# Altium schematic symbol library SiLPA.SchLib: 5 symbols
Pins are listed as number, name and electrical type; pins without a type are passive.

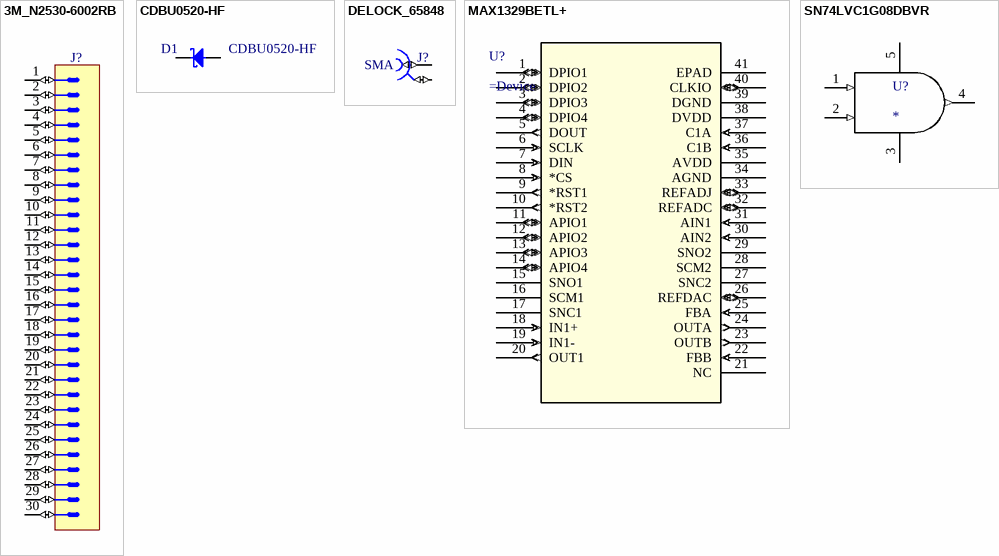
[diagram p0: symbols 3M_N2530-6002RB to SN74LVC1G08DBVR]

## 3M_N2530-6002RB
designator J?, comment Header 30  (value not drawn)
Connector 30 Male; Part Number: 3M_N2530-6002RB; Part Description: 30 Contacts - Straight .100'' x .100'' Low Profile Four-Wall Header, 2500 Series; Manufacturer: 3M; Manufacturer Part Number: N2530-6002RB; PressFit: No; Component Kind: Standard; Component Type: Standard; Footprint: 3M_N2530-6002RB; Pin Count: 30; Family: Header 30; Mounted: Yes; Socket: No; SMD: No; Sense: No; Status: None; ComponentHeight: 10.03mm; HelpURL: \\cern.ch\dfs\Applications\Altium\Datasheets\3M_N2530-6002RB.pdf; Author: CERN DEM JLC; CreateDate: 11.02.2009; LatestRevisionDate: 11.08.2009
footprint 3M_N2530-6002RB
pins: 1 (io), 2 (io), 3 (io), 4 (io), 5 (io), 6 (io), 7 (io), 8 (io), 9 (io), 10 (io), 11 (io), 12 (io), 13 (io), 14 (io), 15 (io), 16 (io), 17 (io), 18 (io), 19 (io), 20 (io), 21 (io), 22 (io), 23 (io), 24 (io), 25 (io), 26 (io), 27 (io), 28 (io), 29 (io), 30 (io)
1 alternate drawing of the same symbol

## CDBU0520-HF
designator D1
Schottky Diode; Part Description: 20V Surface mount Schottky Barrier Diode; Manufacturer: COMCHIP; Voltage: 20V; Power: 500mA; PressFit: No; Bonding: No; Part Number: CDBU0520-HF; Component Kind: Standard; Component Type: Standard; Device: CDBU0520-HF; Footprint: SOD-523F; PackageDescription: Small Outline Diode Flat Lead (SOD-523F), Body; 1.80mm L X 1mm W X 0.85mm H; Manufacturer Part Number: CDBU0520-HF; Pin Count: 2; Case: SOD-523F; Mounted: Yes; Socket: No; SMD: Yes; Sense: No; ComponentHeight: 1mm; HelpURL: \\cern.ch\dfs\Applications\Altium\Datasheets\CDBU0520-HF.pdf; Author: CERN DEM HF; CreateDate: 13.10.2023; LatestRevisionDate: 13.10.2023
footprint CDBU
pins: 1 C, 2 A

## DELOCK_65848
designator J?, comment SMA
50 Ohm Through Hole SMA Right Angle PCB Jack; Part Number: DELOCK_65848; Manufacturer: DELOCK; Manufacturer Part Number: 5848 (4043619658480); PressFit: No; Component Kind: Standard; Component Type: Standard; Footprint: DELOCK_65848; Pin Count: 5; Family: SMA; Mounted: Yes; Socket: No; SMD: No; Sense: No; Status: None; Part Description: 50 Ohm Through Hole SMA Right Angle PCB Jack; ComponentHeight: 12.5; HelpURL: \\cern.ch\dfs\Applications\Altium\Datasheets\AMPHENOL_132203-16.pdf; Author: GK; CreateDate: 13.05.2019; LatestRevisionDate: 13.05.2019
footprint DELOCK_65848
pins: 1 (io), 2 (io)

## MAX1329BETL+
designator U?
Data Acquisition ADCs/DACs - Specialised 12-/16-Bit DAS with ADC, DACs, DPIOs, AP; Mfr_Name: Maxim Integrated Products; Manufacturer_Part_Number: MAX1329BETL+; Copyright: Copyright (C) 2022 Ultra Librarian. All rights reserved.; RefDes: RefDes; Type: DEV
footprint 21-0141_T4066+5_MXM-M
pins: 1 DPIO1 (io), 2 DPIO2 (io), 3 DPIO3 (io), 4 DPIO4 (io), 5 DOUT (out), 6 SCLK (in), 7 DIN (in), 8 *CS (in), 9 *RST1 (out), 10 *RST2 (out), 11 APIO1 (io), 12 APIO2 (io), 13 APIO3 (io), 14 APIO4 (io), 15 SNO1, 16 SCM1, 17 SNC1, 18 IN1+ (in), 19 IN1- (in), 20 OUT1 (out), 21 NC, 22 FBB (in), 23 OUTB (out), 24 OUTA (out), 25 FBA (in), 26 REFDAC (io), 27 SNC2, 28 SCM2, 29 SNO2, 30 AIN2 (in), 31 AIN1 (in), 32 REFADC (io), 33 REFADJ (io), 34 AGND (power), 35 AVDD (power), 36 C1B (in), 37 C1A (in), 38 DVDD (power), 39 DGND (power), 40 CLKIO (io), 41 EPAD

## SN74LVC1G08DBVR
designator U?
Logic Gates Single 2 Input A 595-SN74LVC1G08DBVT; Mfr_Name: Texas Instruments; PartNumber: SN74LVC1G08DBVR; CompType: IC; TYPE: TYPE; RefDes: RefDes; Application_BuildNumber: *; Alternate_PartNumber: SN74LVC1G08DBVT; PackageReference: DBV0005A; MountType: SMT; RoHS: Y; Manufacturer: Texas Instruments
footprint DBV0005A_M
pins: 1 A (in), 2 B (in), 3 V- (power), 4 Y (out), 5 V+ (power)